# Altium footprint library crystal.PcbLib: 1 footprints
Each footprint in its own frame and in the unit in brackets; x right, y up, seen from the top. Pads: shape width x height; smd on the part's side, far side on the other; paste and mask are expansions set on the pad; w line width, h text height; cw(c..) or ccw(c..) is an arc to the next point about the centre after c.
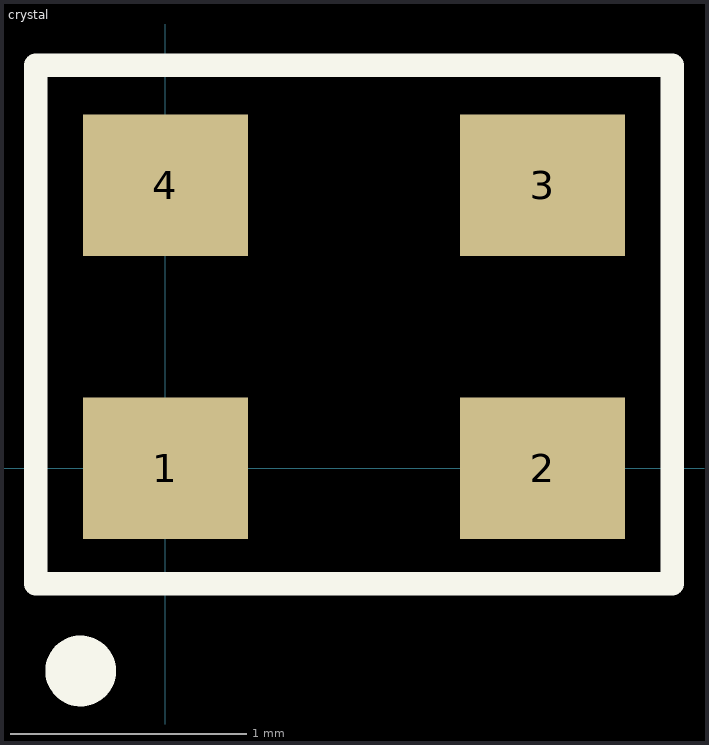
[diagram p0: the footprint, top view; thin cyan lines are the x and y axes]

## crystal [mm]
pads (4):
  rect 0.7x0.6 smd: 1(0,0) 2(1.6,0) 3(1.6,1.2) 4(0,1.2)
Top Overlay:
  circle w0.2: c-0.36,-0.86 r0.05
  lines w0.1: -0.55,-0.49 2.15,-0.49 2.15,1.71 -0.55,1.71 -0.55,-0.49
3D body "Download_STP_830107820709 (rev1).stp": height 0.55, standoff 0, extent -0.45,-0.4 2.05,1.6